# Altium schematic symbol library HM_RETI_Ambilight_v1_0.SCHLIB: 11 symbols
Pins are listed as number, name and electrical type; pins without a type are passive.

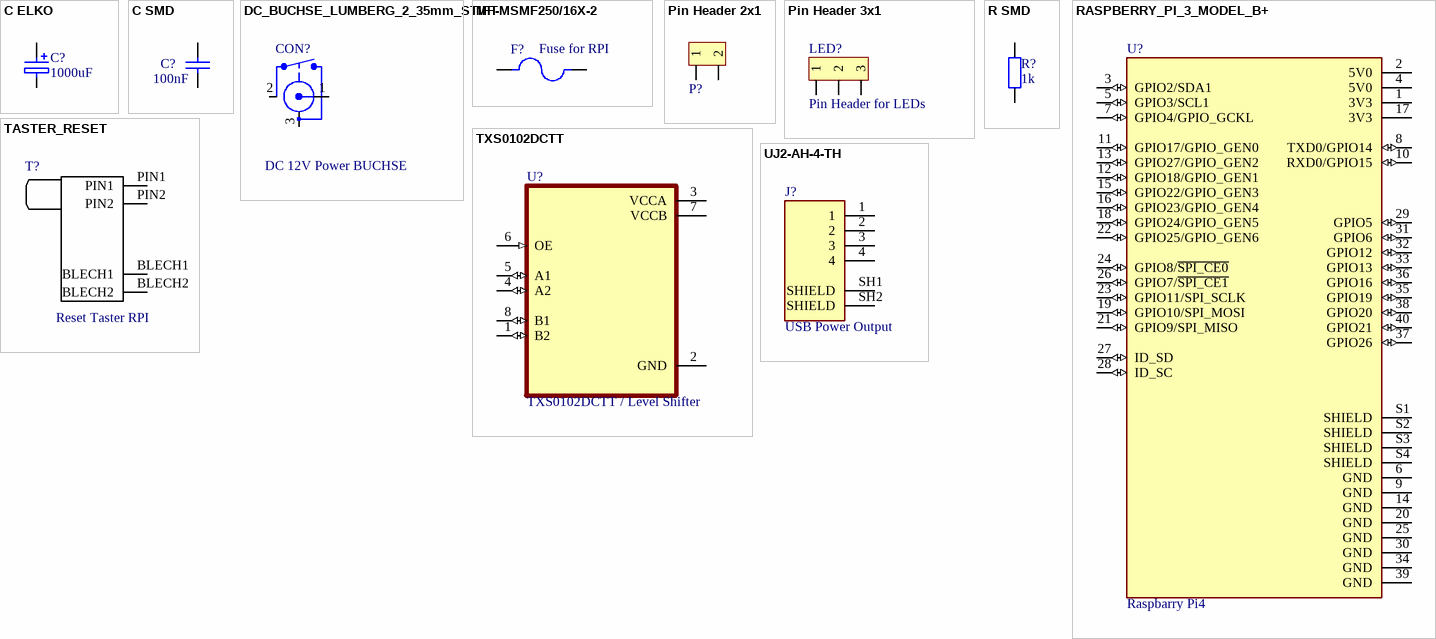
[diagram p0: symbols C ELKO to UJ2-AH-4-TH]

## C ELKO
designator C?, comment 1000uF
C, SMD, ELKO, 6,5V, ± 10%
footprint C_10mm_left (C_10mm, P=5mm)
footprint C_10mm_right (C_10mm, P=5mm)
footprint C_10mm_left - n.p. (C_10mm, P=5mm)
footprint C_10mm_right - n.p. (C_10mm, P=5mm)
footprint C_2mm5 6mm3
footprint C_5mm 10mm
pins: 1, 2

## C SMD
designator C?, comment 100nF
C, SMD, MLCC, 25V, ± 10%
footprint C_0402
footprint C_0603
footprint C_0805
footprint C_1206
pins: 1, 2

## DC_BUCHSE_LUMBERG_2_35mm_STIFT
designator CON?, comment DC 12V Power BUCHSE
DC_BUCHSE_LUMBERG_2_35mm_STIFT
footprint DC_BUCHSE_LUMBERG_2_35mm_STIFT
footprint DC_BUCHSE_LUMBERG_2_35mm_STIFT_MCV_2P
pins: 1 I, 2 SW, 3 A

## MF-MSMF250/16X-2
designator F?, comment Fuse for RPI
Polymeric PTC Resettable Fuse 16V 2.5 A Ih Surface Mount 1812 (4532 Metric), Concave; MP: MF-MSMF250/16X-2; MF: Bourns; Availability: In Stock; SnapEDA_Link: https://www.snapeda.com/parts/MF-MSMF250/16X-2/Bourns/view-part/?ref=snap; Price: None; Check_prices: https://www.snapeda.com/parts/MF-MSMF250/16X-2/Bourns/view-part/?ref=eda; Package: 1812 Bourns; Purchase-URL: https://pricing.snapeda.com/search/part/MF-MSMF250/16X-2/?ref=eda; Value: *
footprint FUSER_MF-MSMF250/16X-2 (Footprint not found)
pins: 1, 2

## Pin Header 2x1
designator P?  (value not drawn)
Board-to-Board-Steckverbinder, vertikal, 2.54 mm, 2 Kontakt(e), Stiftleiste, Baureihe WR-PHD
footprint Header 2x1
pins: 1, 2

## Pin Header 3x1
designator LED?, comment Pin Header for LEDs
Board-to-Board-Steckverbinder, vertikal, 2.54 mm, 3 Kontakt(e), Stiftleiste, Baureihe WR-PHD
footprint Header 3x1
footprint Header 3x1 n.p.
pins: 1, 2, 3

## R SMD
designator R?, comment 1k
R, SMD, Chip, 100mW, ± 1%
footprint R_0402
footprint R_0603
footprint R_0805
footprint R_1206
pins: 1, 2

## RASPBERRY_PI_3_MODEL_B+
designator U?, comment Raspbarry Pi4
BCM2835 Raspberry Pi Model B+ - ARM11, VideoCore MPU Embedded Evaluation Board; MP: RASPBERRY_PI_3_MODEL_B+; Price: None; Value: *; Availability: Unavailable; Package: None
footprint MODULE_RASPBERRY_PI_3_MODEL_B+
pins: 1 3V3 (power), 2 5V0 (power), 3 GPIO2/SDA1 (io), 4 5V0 (power), 5 GPIO3/SCL1 (io), 6 GND (power), 7 GPIO4/GPIO_GCKL (io), 8 TXD0/GPIO14 (io), 9 GND (power), 10 RXD0/GPIO15 (io), 11 GPIO17/GPIO_GEN0 (io), 12 GPIO18/GPIO_GEN1 (io), 13 GPIO27/GPIO_GEN2 (io), 14 GND (power), 15 GPIO22/GPIO_GEN3 (io), 16 GPIO23/GPIO_GEN4 (io), 17 3V3 (power), 18 GPIO24/GPIO_GEN5 (io), 19 GPIO10/SPI_MOSI (io), 20 GND (power), 21 GPIO9/SPI_MISO (io), 22 GPIO25/GPIO_GEN6 (io), 23 GPIO11/SPI_SCLK (io), 24 GPIO8/~{SPI_CE0} (io), 25 GND (power), 26 GPIO7/~{SPI_CE1} (io), 27 ID_SD (io), 28 ID_SC (io), 29 GPIO5 (io), 30 GND (power), 31 GPIO6 (io), 32 GPIO12 (io), 33 GPIO13 (io), 34 GND (power), 35 GPIO19 (io), 36 GPIO16 (io), 37 GPIO26 (io), 38 GPIO20 (io), 39 GND (power), 40 GPIO21 (io), S1 SHIELD (power), S2 SHIELD (power), S3 SHIELD (power), S4 SHIELD (power)

## TASTER_RESET
designator T?, comment Reset Taster RPI
Taster, THT, 90°, 8,35mm, black; Hersteller#: 431256083716
footprint 431256058736 (Taster 90° 8,35mm)
pins: BLECH1, BLECH2, PIN1, PIN2

## TXS0102DCTT
designator U?, comment TXS0102DCTT / Level Shifter
2-Bit Bidirectional Voltage-Level Shifter for Open-Drain and Push-Pull Application; MF: Texas Instruments; DigiKey-Purchase-URL: https://snapeda.com/shop?store=DigiKey&id=320760; Value: *; Package: SSOP-8 Texas Instruments; Mouser-Purchase-URL: https://snapeda.com/shop?store=Mouser&id=320760; Price: None; SnapEDA_Link: https://www.snapeda.com/parts/TXS0102DCTT/Texas%20Instruments/view-part/320760/?ref=snap; Availability: Unavailable; MP: TXS0102DCTT; Texas_Instruments-Purchase-URL: https://snapeda.com/shop?store=Texas+Instruments&id=320760
footprint SOP65P400X130-8N (Footprint not found)
pins: 1 B2 (io), 2 GND (power), 3 VCCA (power), 4 A2 (io), 5 A1 (io), 6 OE (in), 7 VCCB (power), 8 B1 (io)

## UJ2-AH-4-TH
designator J?, comment USB Power Output
Type A, USB 2.0, 1 A, Right Angle, Through Hole, USB Receptacle; MF: CUI Devices; MP: UJ2-AH-4-TH; Value: *; Check_prices: https://www.snapeda.com/parts/UJ2-AH-4-TH/CUI+Devices/view-part/?ref=eda; Package: None; CUI_purchase_URL: https://www.cuidevices.com/product/interconnect/connectors/usb-connectors/uj2-ah-4-th?utm_source=snapeda.com&utm_medium=referral&utm_campaign=snapedaBOM; Purchase-URL: https://pricing.snapeda.com/search/part/UJ2-AH-4-TH/?ref=eda; Digi-Key_Part_Number: 102-3994-ND; SnapEDA_Link: https://www.snapeda.com/parts/UJ2-AH-4-TH/CUI+Devices/view-part/?ref=snap
footprint CUI_UJ2-AH-4-TH (Footprint not found)
pins: 1, 2, 3, 4, SH1 SHIELD, SH2 SHIELD